# EAGLE library part 66201011022 (library Wire-to-Board (rev18a))
WR-MPC3 3.00mm Male Single Row Angled Header with Plastic Pegs, 10 Pins=>Code : Con_WTB_MPC3_1_PCB_66201011022 <http://katalog.we-online.de/media/thumbs2/eican/thb_Con_WTB_MPC3_1_PCB_6620xx11022_pf2.jpg> Details see: http://katalog.we-online.de/en/em/MPC3_3_00_SMT_MALE_SINGLE_ROW_ANGLED_HEADER_W_PLASTIC_PEGS_6620XX11022 Created 2014-06-06, Karrer Zheng 2014 (C) Würth Elektronik
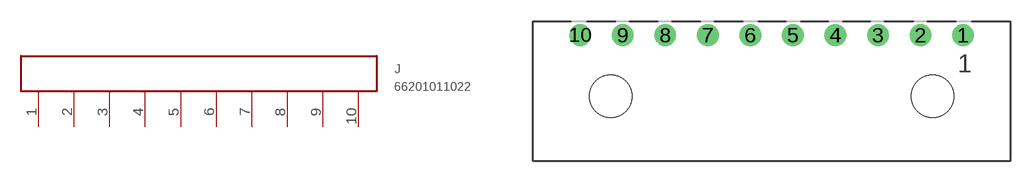
[diagram p347: symbol with the pads of 66201011022; footprint 66201011022]

Designator prefix J

## 66201011022  [66201011022]
1  1  pas
2  2  pas
3  3  pas
4  4  pas
5  5  pas
6  6  pas
7  7  pas
8  8  pas
9  9  pas
10  10  pas

## Footprint 66201011022 (pad centres in mm)
WR-MPC3 3.00mm Male Single Row Angled Header with Plastic Pegs, 10 Pins
drill 1.02: 1 13.5,4.32; 2 10.5,4.32; 3 7.5,4.32; 4 4.5,4.32; 5 1.5,4.32; 6 -1.5,4.32; 7 -4.5,4.32; 8 -7.5,4.32; 9 -10.5,4.32; 10 -13.5,4.32
hole 3 at 11.35,0
hole 3 at -11.35,0